# Altium schematic symbol library Relays.SchLib: 1 symbol
Pins are listed as number, name and electrical type; pins without a type are passive.

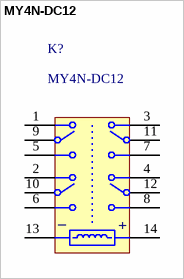
[diagram p0: symbol MY4N-DC12]

## MY4N-DC12
designator K?
4PDT Relay, 12 VDC, 165 Ohm
footprint PY14-02 (PCB Socket for Omron MY4N Relay)
pins: 1, 2, 3, 4, 5, 6, 7, 8, 9, 10, 11, 12, 13, 14
text: _; +